# Altium schematic symbol library Parts.SchLib: 7 symbols
Pins are listed as number, name and electrical type; pins without a type are passive.

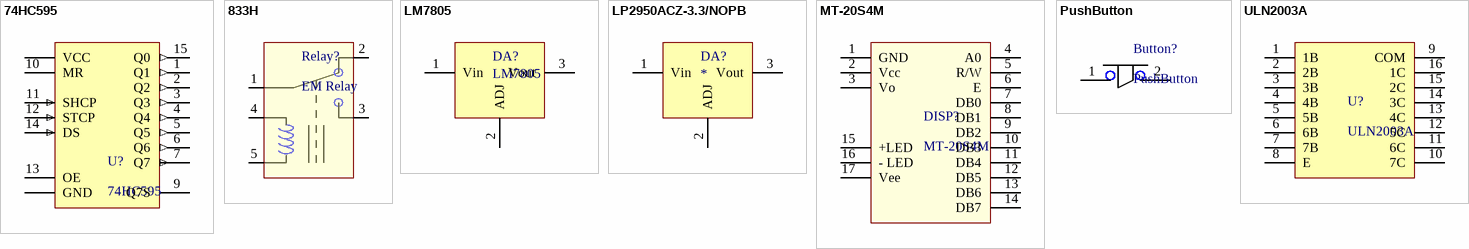
[diagram p0: symbols 74HC595 to ULN2003A]

## 74HC595
designator U?
Shift register; Datasheet: http://www.nxp.com/documents/data_sheet/74HC_HCT595.pdf
footprint SO16_L (SOIC, 16-Leads, Body 9.9x3.8mm, Pitch 1.27mm, IPC High Density)
pins: 1 Q1 (out), 2 Q2 (out), 3 Q3 (out), 4 Q4 (out), 5 Q5 (out), 6 Q6 (out), 7 Q7 (out), 8 GND, 9 Q7S, 10 MR, 11 SHCP (in), 12 STCP (in), 13 OE, 14 DS (in), 15 Q0 (out), 16 VCC

## 833H
designator Relay?, comment EM Relay
Electromagnetic relay; Datasheet: http://lib.chipdip.ru/156/DOC000156753.pdf
footprint 833H Relay (EM RELAY)
pins: 1, 2, 3, 4, 5

## LM7805
designator DA?
footprint TO220
pins: 1 Vin, 2 ADJ, 3 Vout

## LP2950ACZ-3.3/NOPB
designator DA?
3.3V 100mA voltage regulator
footprint TO 92
pins: 1 Vin, 2 ADJ, 3 Vout

## MT-20S4M
designator DISP?
footprint MT-20S4M (Display footprint and mounting)
pins: 1 GND, 2 Vcc "Power", 3 Vo "Contrast control", 4 A0, 5 R/W, 6 E, 7 DB0, 8 DB1, 9 DB2, 10 DB3, 11 DB4, 12 DB5, 13 DB6, 14 DB7, 15 +LED "Backlight +", 16 - LED "Backlight -", 17 Vee "DC-DC converter output", 18 +LED1 hidden "Not used", 19 -LED2 hidden "Not used"

## PushButton
designator Button?
Mechanical push button (0 / 1); Datasheet: http://lib.chipdip.ru/937/DOC000937812.pdf
footprint FSM4JH (Through-hole push button)
pins: 1, 2

## ULN2003A
designator U?
Transistor array; Datasheet: http://www.ti.com/lit/ds/symlink/uln2003a.pdf
footprint SO16_L (SOIC, 16-Leads, Body 9.9x3.8mm, Pitch 1.27mm, IPC High Density)
pins: 1 1B, 2 2B, 3 3B, 4 4B, 5 5B, 6 6B, 7 7B, 8 E, 9 COM, 10 7C, 11 6C, 12 5C, 13 4C, 14 3C, 15 2C, 16 1C